# Altium footprint library Connectors - FFC FPC.PcbLib: 3 footprints
Each footprint in its own frame and in the unit in brackets; x right, y up, seen from the top. Pads: shape width x height; smd on the part's side, far side on the other; paste and mask are expansions set on the pad; w line width, h text height; cw(c..) or ccw(c..) is an arc to the next point about the centre after c.
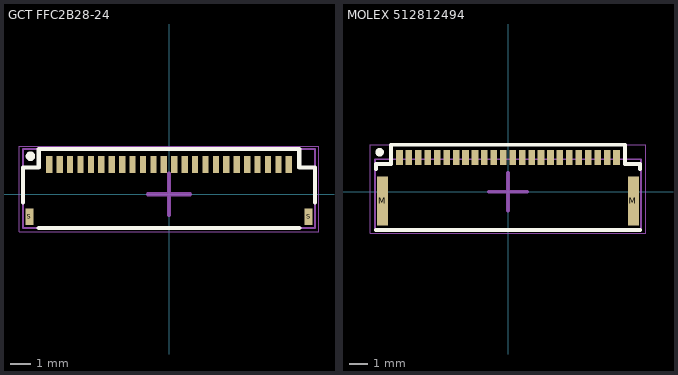
[diagram p0: the footprints below, top view; thin cyan lines are the x and y axes]

## GCT FFC2B28-24 [mm] "24 Position FFC, FPC Connector Contacts, Top and Bottom 0.020\" (0.50mm) Surface Mount, Right Angle"
height 1
pads (26):
  rect 0.3x0.8 smd: 1(-5.75,1.425) 2(-5.25,1.425) 3(-4.75,1.425) 4(-4.25,1.425) 5(-3.75,1.425) 6(-3.25,1.425) 7(-2.75,1.425) 8(-2.25,1.425) 9(-1.75,1.425) 10(-1.25,1.425) 11(-0.75,1.425) 12(-0.25,1.425) 13(0.25,1.425) 14(0.75,1.425) 15(1.25,1.425) 16(1.75,1.425) 17(2.25,1.425) 18(2.75,1.425) 19(3.25,1.425) 20(3.75,1.425) 21(4.25,1.425) 22(4.75,1.425) 23(5.25,1.425) 24(5.75,1.425)
  rect 0.4x0.8 smd: S(-6.7,-1.075) S(6.7,-1.075)
Top Overlay:
  circle w0.254: c-6.65,1.825 r0.1
  lines w0.2: -7,-0.4 -7,1.275 -6.25,1.275 -6.25,2.175 6.25,2.175 6.25,1.275 7,1.275 7,-0.4 ; -6.25,-1.625 6.25,-1.625
Mechanical 13:
  lines w0.1: -7,-1.625 -7,2.175 7,2.175 7,-1.625 -7,-1.625
Mechanical 15:
  lines w0.05: -7.2,-1.8 -7.2,2.3 7.2,2.3 7.2,-1.8 -7.2,-1.8
  lines w0.2: -1,0 1,0 ; 0,-1 0,1
3D body "GCT - FFC2B28-24-G.step": height 1.75, standoff 0, extent -7,-1.625 7,1.625

## MOLEX 512812494 [mm] "24 Position FFC, FPC Connector Contacts, Top and Bottom 0.020\" (0.50mm) Surface Mount, Right Angle"
height 1.2
pads (26):
  rect 0.35x0.8 smd: 1(-5.75,1.825) 2(-5.25,1.825) 3(-4.75,1.825) 4(-4.25,1.825) 5(-3.75,1.825) 6(-3.25,1.825) 7(-2.75,1.825) 8(-2.25,1.825) 9(-1.75,1.825) 10(-1.25,1.825) 11(-0.75,1.825) 12(-0.25,1.825) 13(0.25,1.825) 14(0.75,1.825) 15(1.25,1.825) 16(1.75,1.825) 17(2.25,1.825) 18(2.75,1.825) 19(3.25,1.825) 20(3.75,1.825) 21(4.25,1.825) 22(4.75,1.825) 23(5.25,1.825) 24(5.75,1.825)
  rect 0.6x2.6 smd: M(-6.65,-0.475) M(6.65,-0.475)
Top Overlay:
  circle w0.254: c-6.8,2.1 r0.1
  lines w0.2: -7,-2.025 7,-2.025 ; -7,1.2 -7,1.475 -6.2,1.475 -6.2,2.5 6.2,2.5 6.2,1.475 7,1.475 7,1.2
Mechanical 13:
  lines w0.1: -7.05,-2.025 7.05,-2.025 7.05,1.725 -7.05,1.725 -7.05,-2.025
Mechanical 15:
  lines w0.05: -7.3,-2.2 7.3,-2.2 7.3,2.5 -7.3,2.5 -7.3,-2.2
  lines w0.2: -1,0 1,0 ; 0,-1 0,1
3D body "Molex - 512812494.step": height 1.2, standoff 0, extent -7.05,-2.025 7.05,2.025

## PCBComponent_1 [mm]